# Altium footprint library SparkFun-Capacitors.PCBLIB: 33 footprints (part 2 of 3)
Each footprint in its own frame and in the unit in brackets; x right, y up, seen from the top. Pads: shape width x height; smd on the part's side, far side on the other; paste and mask are expansions set on the pad; w line width, h text height; cw(c..) or ccw(c..) is an arc to the next point about the centre after c.
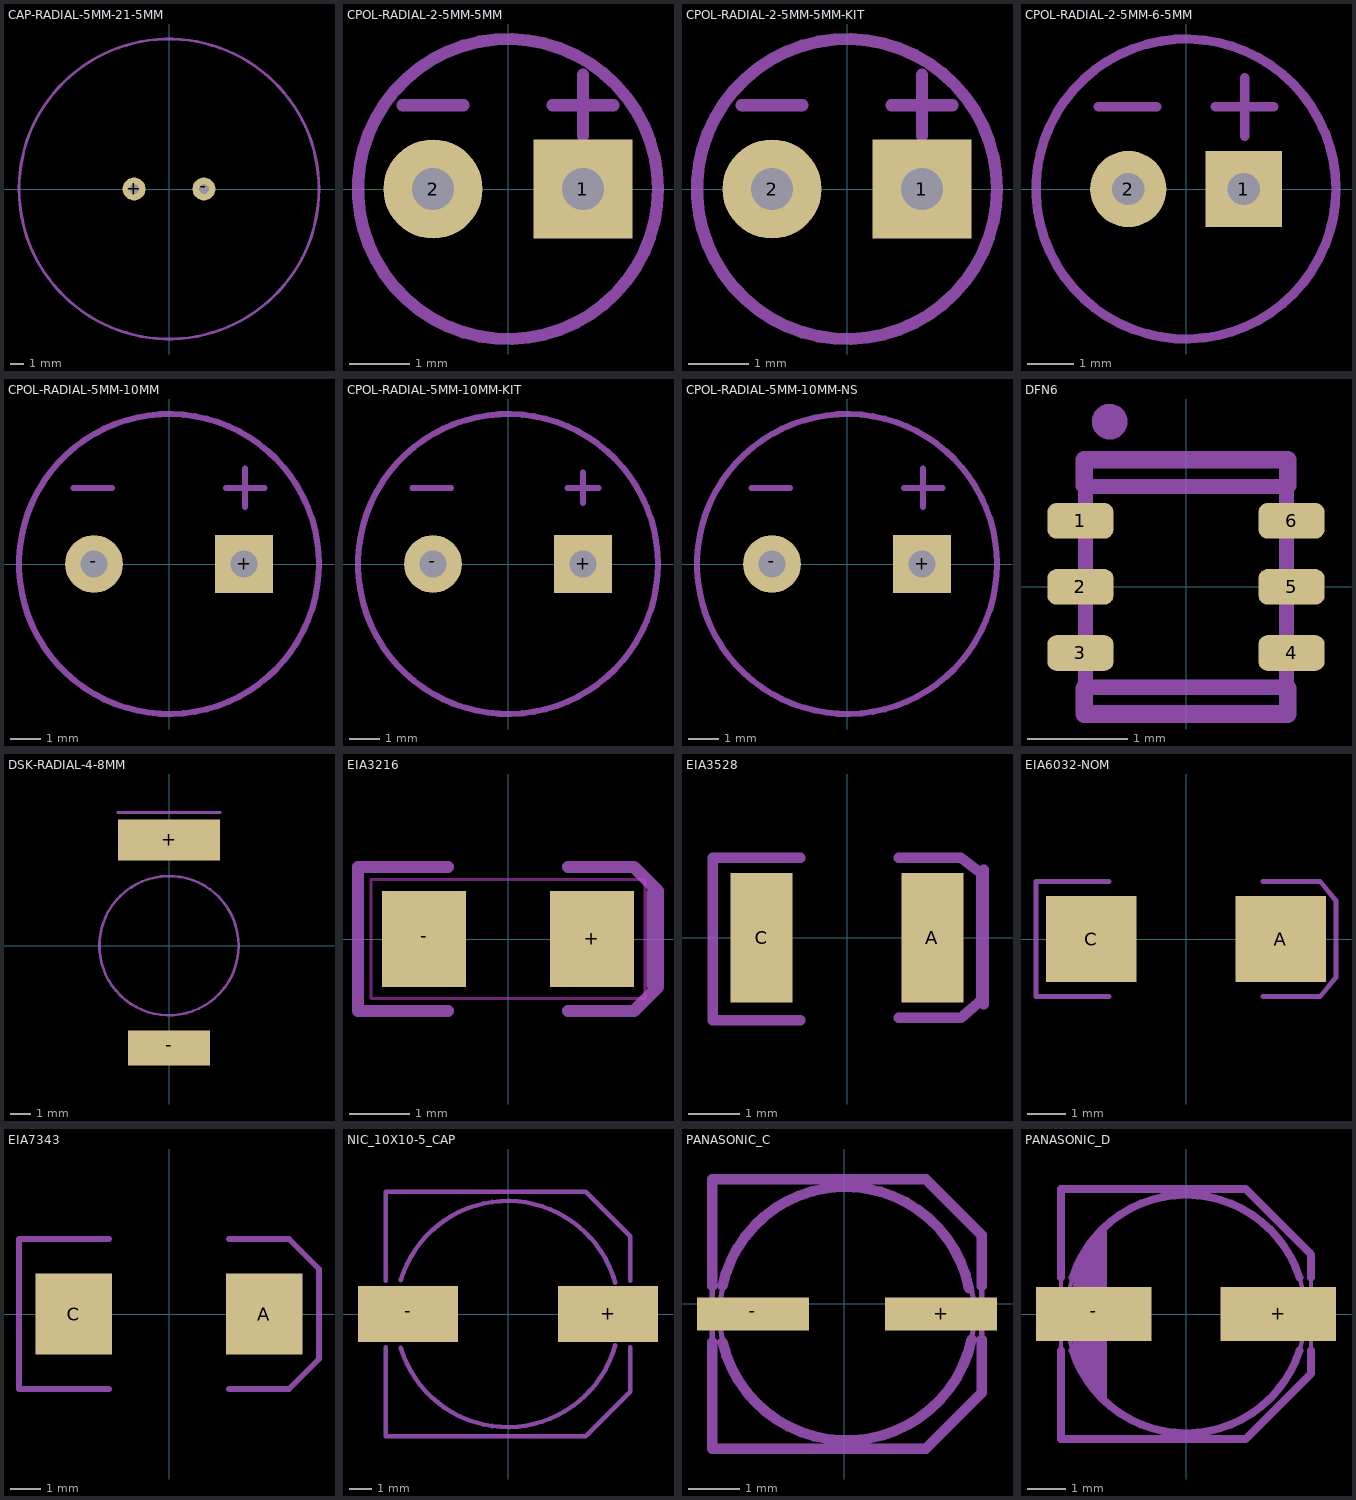
[diagram p1: the footprints below, top view; thin cyan lines are the x and y axes]

## CAP-RADIAL-5MM-21-5MM [mil]
pads (2):
  round 65 hole 27.56: +(-98.43,0) -(98.43,0)
tPlace:
  circle w8: c0,0 r423.23
  text "+" at -452.76,0 h77.5
  text "+" at -177.17,0 h77.5

## CPOL-RADIAL-2-5MM-5MM [mil]
pads (2):
  rect 65x65 / inner round 60.05 / far side rect 65x65 hole 27.56: 1(49.21,0)
  round 65 hole 27.56: 2(-49.21,0)
tPlace:
  circle w8: c0,0 r98.43
  lines w8: -69.21,55 -29.21,55 ; 29.21,55 69.21,55 ; 49.21,35 49.21,75

## CPOL-RADIAL-2-5MM-5MM-KIT [mil]
pads (2):
  rect 65x65 / inner round 60.05 / far side rect 65x65 hole 27.56: 1(49.21,0)
  round 65 hole 27.56: 2(-49.21,0)
Top Solder:
  circle w0: c-49.21,0 r14
  circle w0: c49.21,0 r14
Bottom Solder:
  circle w0: c-49.21,0 r38
  region: 11.21,-38 11.21,38 87.21,38 87.21,-38
tPlace:
  circle w8: c0,0 r98.43
  lines w8: -69.21,55 -29.21,55 ; 29.21,55 69.21,55 ; 49.21,35 49.21,75

## CPOL-RADIAL-2-5MM-6-5MM [mil]
pads (2):
  rect 65x65 / inner round 60.05 / far side rect 65x65 hole 27.56: 1(49.21,0)
  round 65 hole 27.56: 2(-49.21,0)
tPlace:
  circle w8: c0,0 r127.95
  lines w8: -75,70 -25,70 ; 25,70 75,70 ; 50,45 50,95

## CPOL-RADIAL-5MM-10MM [mil]
pads (2):
  rect 76x76 / inner round 70.21 / far side rect 76x76 hole 35.43: +(98.43,0)
  round 76 hole 35.43: -(-98.43,0)
tPlace:
  circle w8: c0,0 r196.85
  lines w8: -125,100 -75,100 ; 75,100 125,100 ; 100,75 100,125

## CPOL-RADIAL-5MM-10MM-KIT [mil]
pads (2):
  rect 76x76 / inner round 70.21 / far side rect 76x76 hole 35.43: +(98.43,0)
  round 76 hole 35.43: -(-98.43,0)
Top Solder:
  circle w0: c-98.43,0 r17.6
  circle w0: c98.43,0 r17.72
Bottom Solder:
  circle w0: c-98.43,0 r38.5
  region: 59.06,-39.37 59.06,39.37 137.8,39.37 137.8,-39.37
tPlace:
  circle w8: c0,0 r196.85
  lines w8: -125,100 -75,100 ; 78.43,100 118.43,100 ; 98.43,80 98.43,120

## CPOL-RADIAL-5MM-10MM-NS [mil]
pads (2):
  rect 76x76 / inner round 70.21 / far side rect 76x76 hole 35.43: +(98.43,0)
  round 76 hole 35.43: -(-98.43,0)
tDocu:
  circle w8: c0,0 r196.85
  lines w8: -125,100 -75,100 ; 75,100 125,100 ; 100,75 100,125

## DFN6 [mil]
pads (6):
  rrect50% 26x14 smd: 1(-41.5,26) 2(-41.5,0) 3(-41.5,-26) 4(41.5,-26) 5(41.5,0) 6(41.5,26)
tDocu:
  lines w6: -39.5,-39.5 39.5,-39.5 39.5,39.5 -39.5,39.5 -39.5,-39.5
tPlace:
  circle w8: c-30,65 r3
  lines w7: -40,-40 -40,-50 40,-50 40,-40 ; -40,40 -40,50 40,50 40,40

## DSK-RADIAL-4-8MM [mm]
pads (2):
  rect 5x2 smd: +(0,5.15)
  rect 4x1.7 smd: -(0,-5)
tPlace:
  circle w0.127: c0,0 r3.4
  lines w0.127: -2.5,6.5 2.5,6.5

## EIA3216 [mil]
pads (2):
  rect 55.12x62.99 smd: +(55.12,0) -(-55.12,0)
Top keep-out:
  lines w2: -90,-39 90,-39 90,39 -90,39 -90,-39
tDocu:
  lines w8: -39.37,-47.24 -98.43,-47.24 -98.43,47.24 -39.37,47.24 ; 39.37,-47.24 82.68,-47.24 98.43,-31.5 98.43,31.5 82.68,47.24 39.37,47.24
tPlace:
  lines w8: 95,-30 95,30

## EIA3528 [mm]
pads (2):
  rect 1.2x2.5 smd: A(1.65,0) C(-1.65,0)
tDocu:
  lines w0.203: -0.9,-1.6 -2.6,-1.6 -2.6,1.55 -0.9,1.55 ; 1,-1.55 2.2,-1.55 2.6,-1.2 2.6,1.25 2.2,1.55 1,1.55
tPlace:
  lines w0.203: 2.641,-1.286 2.641,1.311

## EIA6032-NOM [mil]
pads (2):
  rect 93.31x87.8 smd: A(97.24,0) C(-97.24,0)
tDocu:
  lines w5: -78.74,-59.06 -153.94,-59.06 -153.94,59.06 -78.74,59.06 ; 78.74,-59.06 137.8,-59.06 153.94,-39.37 153.94,39.37 137.8,59.06 78.74,59.06
tPlace:
  lines w5: 153.94,-39.37 153.94,39.37

## EIA7343 [mil]
pads (2):
  rect 100.39x106.3 smd: A(124.8,0) C(-124.8,0)
tPlace:
  lines w8: -78.74,-98.43 -196.85,-98.43 -196.85,98.43 -78.74,98.43 ; 78.74,-98.43 157.48,-98.43 196.85,-59.06 196.85,59.06 157.48,98.43 78.74,98.43

## NIC_10X10-5_CAP [mil]
pads (2):
  rect 177.17x98.43 smd: +(177.17,0) -(-177.17,0)
tPlace:
  lines w8: -216.54,-59.06 -216.54,-216.54 137.8,-216.54 216.54,-137.8 216.54,-59.06 ; -216.54,59.06 -216.54,216.54 137.8,216.54 216.54,137.8 216.54,59.06 ; -190,-60 ccw(c-0.72,-2.51) 190,-55 ; -190,60 cw(c-0.72,2.51) 190,55

## PANASONIC_C [mm]
pads (2):
  rect 2.2x0.65 smd: +(1.9,-0.2) -(-1.8,-0.2)
tDocu:
  circle w0.102: c0.05,-0.2 r2.5
  lines w0.102: -2.6,-2.85 1.6,-2.85 2.7,-1.75 2.7,1.35 1.6,2.45 -2.6,2.45 -2.6,-2.85
tPlace:
  lines w0.203: -2.6,-0.75 -2.6,-2.85 1.6,-2.85 2.7,-1.75 2.7,-0.7 ; -2.6,0.35 -2.6,2.45 1.6,2.45 2.7,1.35 2.7,0.35 ; -2.4,-0.75 ccw(c0.044,-0.175) 2.5,-0.7 ; -2.4,0.35 cw(c0.02,-0.175) 2.45,0.3

## PANASONIC_D [mm]
pads (2):
  rect 3x1.4 smd: +(2.4,0) -(-2.4,0)
tDocu:
  circle w0.102: c0,0 r3.1
  region: -3.65,-0.35 -3.65,0.35 -3.05,0.35 -3.05,-0.35
  region: 3.05,-0.35 3.05,0.35 3.65,0.35 3.65,-0.35
  region: -2.15,2.15 -2.6,1.6 -2.9,0.9 -3.05,0 -2.9,-0.95 -2.55,-1.65 -2.15,-2.15 -2.15,2.1
  lines w0.102: -2.1,-2.2 -2.1,2.25 ; -3.25,-3.25 1.55,-3.25 3.25,-1.55 3.25,1.55 1.55,3.25 -3.25,3.25 -3.25,-3.25
tPlace:
  lines w0.203: -3.25,-0.95 -3.25,-3.25 1.55,-3.25 3.25,-1.55 3.25,-0.95 ; -3.25,0.95 -3.25,3.25 1.55,3.25 3.25,1.55 3.25,0.95 ; -2.95,-0.95 ccw(c0,0) 2.95,-0.95 ; -2.95,0.95 cw(c0,0) 2.95,0.95